# EAGLE library part _XX-MOLEX-502598-1593 (library GTEEL_gwu_mpnl_ucat_v10)
0.3 MM PITCH FPC CONN. BACK FLIP HOUSING ASSY. Molex
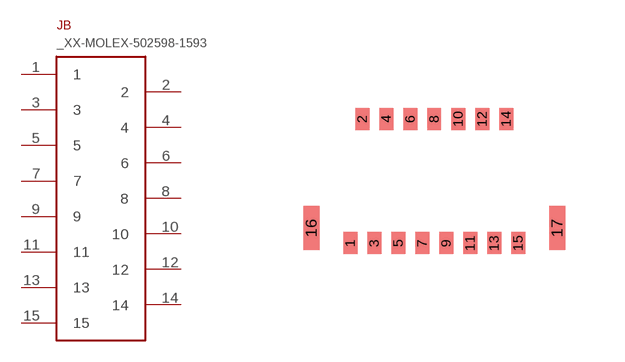
[diagram p18: symbol with the pads of MOLEX-502598-1593; footprint MOLEX-502598-1593]

Designator prefix JB

## _XX-MOLEX-502598-1593-1593 (MF: MOLEX; MPN: 502598-1593)  [MOLEX-502598-1593]
1  1
2  2
3  3
4  4
5  5
6  6
7  7
8  8
9  9
10  10
11  11
12  12
13  13
14  14
15  15

## Footprint MOLEX-502598-1593 (pad centres in mm)
smd 0.35 x 0.55: 1 1.2,0.275; 2 1.5,3.385; 3 1.8,0.275; 4 2.1,3.385; 5 2.4,0.275; 6 2.7,3.385; 7 3,0.275; 8 3.3,3.385; 9 3.6,0.275; 10 3.9,3.385; 11 4.2,0.275; 12 4.5,3.385; 13 4.8,0.275; 14 5.1,3.385; 15 5.4,0.275
smd 0.4 x 1.1: 16 0.225,0.65; 17 6.375,0.65